# Altium schematic symbol library 885382207009.SchLib: 1 symbol
Pins are listed as number, name and electrical type; pins without a type are passive.

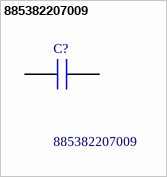
[diagram p0: symbol 885382207009]

## 885382207009
designator C?
Multilayer Ceramic Chip Capacitor WCAP-CSST Series 0805 10000pF X7R0805103K100DFCT1S000; Manufacturer_Name: Wurth Elektronik; Geometry.Height: 1.35mm; Mouser Part Number: 710-885382207009; Mouser Price/Stock: https://www.mouser.co.uk/ProductDetail/Wurth-Elektronik/885382207009?qs=0lSvoLzn4L%2FLliJ98PmFYg%3D%3D; Manufacturer_Part_Number: 885382207009; Datasheet Link: https://katalog.we-online.com/pbs/datasheet/885382207009.pdf
footprint CAPC2012X135N
pins: 1, 2